# Altium footprint library ISO1050DUB.PcbLib: 1 footprints
Each footprint in its own frame and in the unit in brackets; x right, y up, seen from the top. Pads: shape width x height; smd on the part's side, far side on the other; paste and mask are expansions set on the pad; w line width, h text height; cw(c..) or ccw(c..) is an arc to the next point about the centre after c.
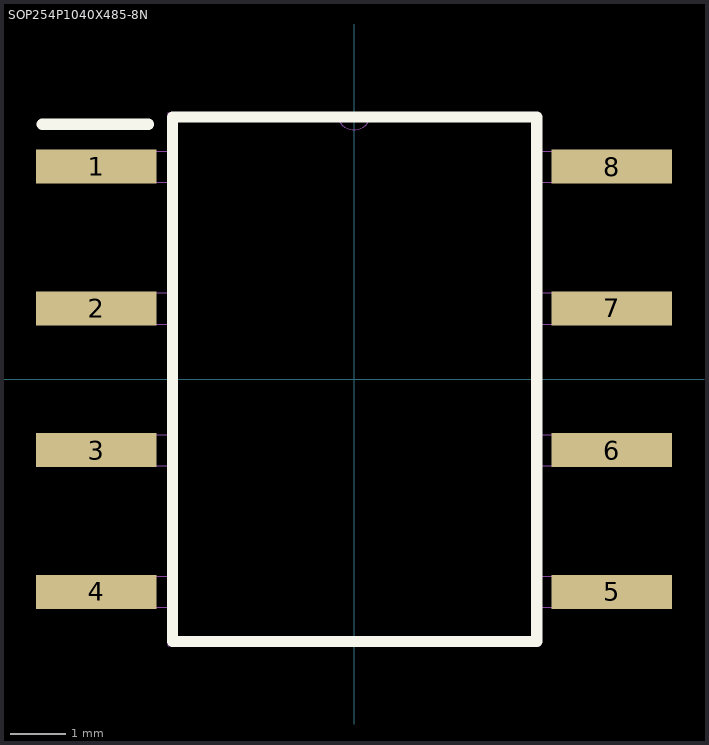
[diagram p0: the footprint, top view; thin cyan lines are the x and y axes]

## SOP254P1040X485-8N [mil]
pads (8):
  rect 85x24 smd: 1(-182,150) 2(-182,50) 3(-182,-50) 4(-182,-150) 5(182,-150) 6(182,-50) 7(182,50) 8(182,150)
Top Overlay:
  lines w7.87: -220,180 -145,180 ; -127.95,-185 128.94,-185 128.94,185 -127.95,185 -127.95,-185
Mechanical 4:
  lines w0: -211,-161 -211,-139 ; -211,-161 -131,-161 ; -211,-161 -211,-139 ; -211,-161 -131,-161 ; -211,-139 -131,-139 ; -211,-139 -131,-139 ; -211,-61 -211,-39 ; -211,-61 -131,-61 ; -211,-61 -211,-39 ; -211,-61 -131,-61 ; -211,-39 -131,-39 ; -211,-39 -131,-39 ; -211,39 -211,61 ; -211,39 -131,39 ; -211,39 -211,61 ; -211,39 -131,39 ; -211,61 -131,61 ; -211,61 -131,61 ; -211,139 -211,161 ; -211,139 -131,139 ; -211,139 -211,161 ; -211,139 -131,139 ; -211,161 -131,161 ; -211,161 -131,161 ; -131,-188 131,-188 ; -131,-188 -131,188 ; -131,-188 131,-188 ; -131,-188 -131,188 ; -131,-161 -131,-139 ; -131,-161 -131,-139 ; -131,-61 -131,-39 ; -131,-61 -131,-39 ; -131,39 -131,61 ; -131,39 -131,61 ; -131,139 -131,161 ; -131,139 -131,161 ; -131,188 -12,188 ; -131,188 -12,188 ; -12,188 ccw(c0,188) 12,188 ; -12,188 ccw(c0,188) 12,188 ; -12,188 12,188 ; -12,188 12,188 ; 12,188 131,188 ; 12,188 131,188 ; 131,-188 131,188 ; 131,-188 131,188 ; 131,-161 131,-139 ; 131,-161 211,-161 ; 131,-161 131,-139 ; 131,-161 211,-161 ; 131,-139 211,-139 ; 131,-139 211,-139 ; 131,-61 131,-39 ; 131,-61 211,-61 ; 131,-61 131,-39 ; 131,-61 211,-61 ; 131,-39 211,-39 ; 131,-39 211,-39 ; 131,39 131,61 ; 131,39 211,39 ; 131,39 131,61 ; 131,39 211,39 ; 131,61 211,61 ; 131,61 211,61 ; 131,139 131,161 ; 131,139 211,139 ; 131,139 131,161 ; 131,139 211,139 ; 131,161 211,161 ; 131,161 211,161 ; 211,-161 211,-139 ; 211,-161 211,-139 ; 211,-61 211,-39 ; 211,-61 211,-39 ; 211,39 211,61 ; 211,39 211,61 ; 211,139 211,161 ; 211,139 211,161
3D body "ISO1050.stp": height 144.88, standoff 0, extent -205.1,-180.11 205.11,180.12